# Altium schematic symbol library PCB_Project_1.SCHLIB: 37 symbols
Pins are listed as number, name and electrical type; pins without a type are passive.

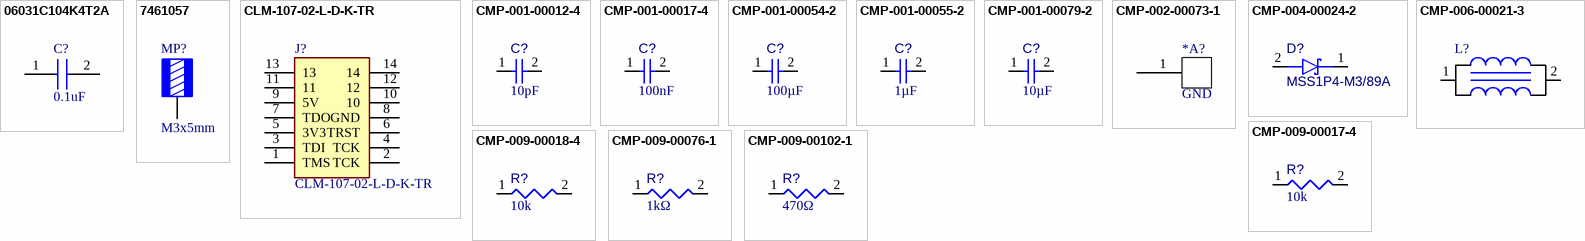
[diagram p0: symbols 06031C104K4T2A to CMP-009-00102-1]

## 06031C104K4T2A
designator C?, comment 0.1uF
Capacitor; Manufacturer_Name: AVX; Manufacturer_Part_Number: 06031C104K4T2A; Datasheet Link: https://componentsearchengine.com/Datasheets/1/06031A100FAT2A.pdf; Height: 0.9mm; Mouser Part Number: 581-06031C104K4T2A; Mouser Price/Stock: https://www.mouser.co.uk/ProductDetail/AVX/06031C104K4T2A?qs=7MVldsJ5UaycASOsZ6%2FbJQ%3D%3D
footprint CAPC1608X90N
pins: 1, 2

## 7461057
designator MP?, comment M3x5mm
WP-BUTR Press-Fit with Internal thread, two rows, 7x7mm, 6 pins, M3x5mm, 100A; Part Number: 7461057; Pin Number: 6; Thread Length: 5mm; Thread: M3; Surface: Tin; ComponentLink1Description: Manufacturer; ComponentLink1URL: http://www.we-online.de; ComponentLink2Description: Datasheet; ComponentLink2URL: https://katalog.we-online.com/em/datasheet/7461057.pdf; Operating Temperature: -55 to +150degC; Height: 6mm; Material: Brass; Packaging: Bulk; Mounting Technology: Press-Fit; Rated Current: 100A; Publisher: Wurth Elektronik; Published Date: September 2019; Size: 7x7mm
footprint 7461057_for HAL
footprint 7461057_for chemical surfaces
pins: 1

## CLM-107-02-L-D-K-TR
designator J?
Connector; Manufacturer_Name: SAMTEC; Datasheet Link: http://suddendocs.samtec.com/prints/clm-1xx-xx-xx-d-xx-mkt.pdf; Manufacturer_Part_Number: CLM-107-02-L-D-K-TR; Arrow Part Number: CLM-107-02-L-D-K-TR; Arrow Price/Stock: https://www.arrow.com/en/products/clm-107-02-l-d-k-tr/samtec; Mouser Part Number: 200-CLM10702LDKTR; Mouser Price/Stock: https://www.mouser.co.uk/ProductDetail/Samtec/CLM-107-02-L-D-K-TR?qs=0lQeLiL1qyaVnfWTja1Tqg%3D%3D
footprint CLM-107-02-XX-D-Y-TR
pins: 1 TMS, 2 TCK, 3 TDI, 4 TCK, 5 3V3, 6 TRST, 7 TDO, 8 GND, 9 5V, 10, 11, 12, 13, 14

## CMP-001-00012-4
designator C?, comment value 10pF  (hidden comment: Capacitor 10 pF +/- 0.25 pF 50 V 0603)
Chip Capacitor, 10 pF, +/- 0.25 pF, 50 V, 0603 (1608 Metric); Manufacturer: KEMET; Manufacturer Part Number: C0603C100C5GACTU; Tolerance: 0.25%; Capacitor Type: Ceramic; Voltage Rating: 50V; Min Operating Temperature: -55°C; Mounting Technology: SM; RoHS Compliant: True; Case/Package: 0603; Pins: 2; Max Operating Temperature: 125°C; Component Type: Capacitors
footprint CAPC1608X87X35ML15T15 (Chip Capacitor, 2-Leads, Body 1.75x0.95mm, IPC Low Density)
footprint CAPC1608X87X35NL15T15 (Chip Capacitor, 2-Leads, Body 1.75x0.95mm, IPC Medium Density)
footprint CAPC1608X87X35LL15T15 (Chip Capacitor, 2-Leads, Body 1.75x0.95mm, IPC High Density)
pins: 1, 2

## CMP-001-00017-4
designator C?, comment value 100nF  (hidden comment: Capacitor 100 nF +/-10% 50 V 0603)
Chip Capacitor, 100 nF, +/- 10%, 50 V, 0603 (1608 Metric); Manufacturer: Kyocera AVX; Manufacturer Part Number: 06035C104KAT2A; Manufacturer: Yageo; Manufacturer Part Number: CC0603KRX7R9BB104; Manufacturer: Murata; Manufacturer Part Number: GRM188R71H104KA93D; Capacitor Type: Ceramic; Voltage Rating: 50V; RoHS Compliant: True; Max Operating Temperature: 125°C; Pins: 2; Mounting Technology: SM; Min Operating Temperature: -55°C; Tolerance: 10%; Case/Package: 0603; Component Type: Capacitors
footprint CAPC1608X90X40ML10T20 (Chip Capacitor, 2-Leads, Body 1.70x0.90mm, IPC Low Density)
footprint CAPC1608X90X40NL10T20 (Chip Capacitor, 2-Leads, Body 1.70x0.90mm, IPC Medium Density)
footprint CAPC1608X90X40LL10T20 (Chip Capacitor, 2-Leads, Body 1.70x0.90mm, IPC High Density)
pins: 1, 2

## CMP-001-00054-2
designator C?, comment value 100µF  (hidden comment: Capacitor 100µF +/-20% 6.3V 0805)
Chip Capacitor, 100µF +/-20%, 6.3V, 0805, Thickness 1.45 mm; Manufacturer: Murata; Manufacturer Part Number: GRM21BR60J107ME15L; Manufacturer Part Number: GRM21BR60G107ME15L; Tolerance: 10%; Case/Package: 0402; Min Operating Temperature: -55°C; Max Operating Temperature: 85°C; Pins: 2; Voltage Rating: 6.3V; Mounting Technology: SMT; Component Type: Capacitors
footprint CAPC0805(2012)145_L (Chip Capacitor, Body 2.0x1.2mm, Height 1.45mm, IPC High Density)
pins: 1, 2

## CMP-001-00055-2
designator C?, comment value 1µF  (hidden comment: Capacitor 1µF +/-0.1% 25V 0603)
Chip Capacitor, 1µF +/-0.1%, 25V, 0603, Thickness 1 mm; Manufacturer: TDK; Manufacturer Part Number: CGA3E3X5R1E105K080AB; Manufacturer: Yageo; Manufacturer Part Number: CC0603KRX5R8BB105; Manufacturer: Samsung; Manufacturer Part Number: CL10A105KA8NNNC; Manufacturer Part Number: CL10A105KA8NFNC; Tolerance: 20%; Max Operating Temperature: 85°C; Voltage Rating: 25V; Min Operating Temperature: -55°C; Case/Package: 0603; Mounting Technology: SMT; Pins: 2; Component Type: Capacitors
footprint CAPC0603(1608)100_L (Chip Capacitor, Body 1.6x0.8mm, Height 1.0mm, IPC High Density)
pins: 1, 2

## CMP-001-00079-2
designator C?, comment value 10µF  (hidden comment: Capacitor 10µF +/-20% 25V 0805)
Chip Capacitor, 10µF +/-20%, 25V, 0805, Thickness 1.45 mm; Manufacturer: Yageo; Manufacturer Part Number: CC0805KKX5R8BB106; Manufacturer: TDK; Manufacturer Part Number: C2012X5R1E106K125AB; Manufacturer: Samsung; Manufacturer Part Number: CL21A106KACLRNC; Manufacturer Part Number: C2012X5R1E106K; Manufacturer: Murata; Manufacturer Part Number: GRM21BR61E106KA73L; Manufacturer Part Number: C2012X5R1E106K085AC; Tolerance: 10%; Pins: 2; Max Operating Temperature: 85°C; Mounting Technology: SMT; Case/Package: 0603; Voltage Rating: 25V; Min Operating Temperature: -55°C; Component Type: Capacitors
footprint CAPC0805(2012)145_L (Chip Capacitor, Body 2.0x1.2mm, Height 1.45mm, IPC High Density)
pins: 1, 2

## CMP-002-00073-1
designator *A?, comment GND
Power Pad for Ground and Supply; Component Type: Connectors
pins: 1

## CMP-004-00024-2
designator D?, comment MSS1P4-M3/89A
Schottky Diodes & Rectifiers 1.0 Amp 40 Volt; Manufacturer: Vishay Semiconductors; Max Surge Current: 25A; Forward Voltage: 460mV; Pins: 2; Min Operating Temperature: -55°C; Max Operating Temperature: 150°C; Mounting Technology: SMT; Manufacturer Part Number: MSS1P4-M3/89A; Component Type: Diodes
footprint MicroSMP (DO-219AD) (SOD, 2-Leads, Body 2.3x1.4mm)
pins: 1 K, 2 A

## CMP-006-00021-3
designator L?, comment Inductor (Ansys)  (value not drawn)
Ansys 3D Model; Component Type: Inductors
footprint Inductor-Footprint-1
pins: 1 "I/P", 2 "O/P"

## CMP-009-00017-4
designator R?, comment value 10k  (hidden comment: Resistor 10k +/-1% 0603 100 mW)
Chip Resistor, 10 KOhm, +/- 1%, 01 W, -55 to 155 degC, 0603 (1608 Metric); Manufacturer: Yageo; Manufacturer Part Number: RC0603FR-0710KL; Manufacturer: Panasonic; Manufacturer Part Number: ERJ-3EKF1002V; Manufacturer Part Number: RC0603FR-1310KL; Manufacturer: Vishay; Manufacturer Part Number: CRCW060310K0FKEA; Voltage Rating: 50V; Power: 100mW; Min Operating Temperature: -55°C; Tolerance: 1%; Case/Package: 0603; Pins: 2; Max Operating Temperature: 155°C; RoHS Compliant: True; Mounting Technology: SM; Component Type: Resistors
footprint RESC1608X55X25ML10T15 (Chip Resistor, 2-Leads, Body 1.70x0.90mm, IPC Low Density)
footprint RESC1608X55X25NL10T15 (Chip Resistor, 2-Leads, Body 1.70x0.90mm, IPC Medium Density)
footprint RESC1608X55X25LL10T15 (Chip Resistor, 2-Leads, Body 1.70x0.90mm, IPC High Density)
pins: 1, 2
1 alternate drawing of the same symbol

## CMP-009-00018-4
designator R?, comment value 10k  (hidden comment: Resistor 10k +/-1% 0805 125 mW)
Chip Resistor, 10 KOhm, +/- 1%, 125 mW, -55 to 155 degC, 0805 (2012 Metric); Manufacturer: Yageo; Manufacturer Part Number: RC0805FR-0710KL; Manufacturer: Vishay; Manufacturer Part Number: CRCW080510K0FKEA; Manufacturer: Panasonic; Manufacturer Part Number: ERJ-6ENF1002V; Power: 125mW; Voltage Rating: 150V; RoHS Compliant: True; Mounting Technology: SM; Pins: 2; Case/Package: 0603; Min Operating Temperature: -55°C; Max Operating Temperature: 155°C; Tolerance: 1%; Component Type: Resistors
footprint RESC2013X50X35ML15T15 (Chip Resistor, 2-Leads, Body 2.2x1.4mm, IPC Low Density)
footprint RESC2013X50X35NL15T15 (Chip Resistor, 2-Leads, Body 2.2x1.4mm, IPC Medium Density)
footprint RESC2013X50X35LL15T15 (Chip Resistor, 2-Leads, Body 2.2x1.4mm, IPC High Density)
pins: 1, 2
1 alternate drawing of the same symbol

## CMP-009-00076-1
designator R?, comment value 1kΩ  (hidden comment: 1KR5J)
1K 0.125W 5% 0805 (2012 Metric)  SMD; Mounting Technology: SMT; Power: 0.125W; Pins: 2; Case/Package: 0603; Tolerance: 5%; Component Type: Resistors
footprint RESC0805(2012)_L (Chip Resistor, Body 2.0x1.3mm, IPC High Density)
pins: 1, 2
1 alternate drawing of the same symbol

## CMP-009-00102-1
designator R?, comment value 470Ω  (hidden comment: 470R5J)
470R 0.125W 5% 0805 (2012 Metric)  SMD; Power: 0.125W; Tolerance: 5%; Mounting Technology: SMT; Case/Package: 0805; Pins: 2; Component Type: Resistors
footprint RESC0805(2012)_L (Chip Resistor, Body 2.0x1.3mm, IPC High Density)
pins: 1, 2
1 alternate drawing of the same symbol

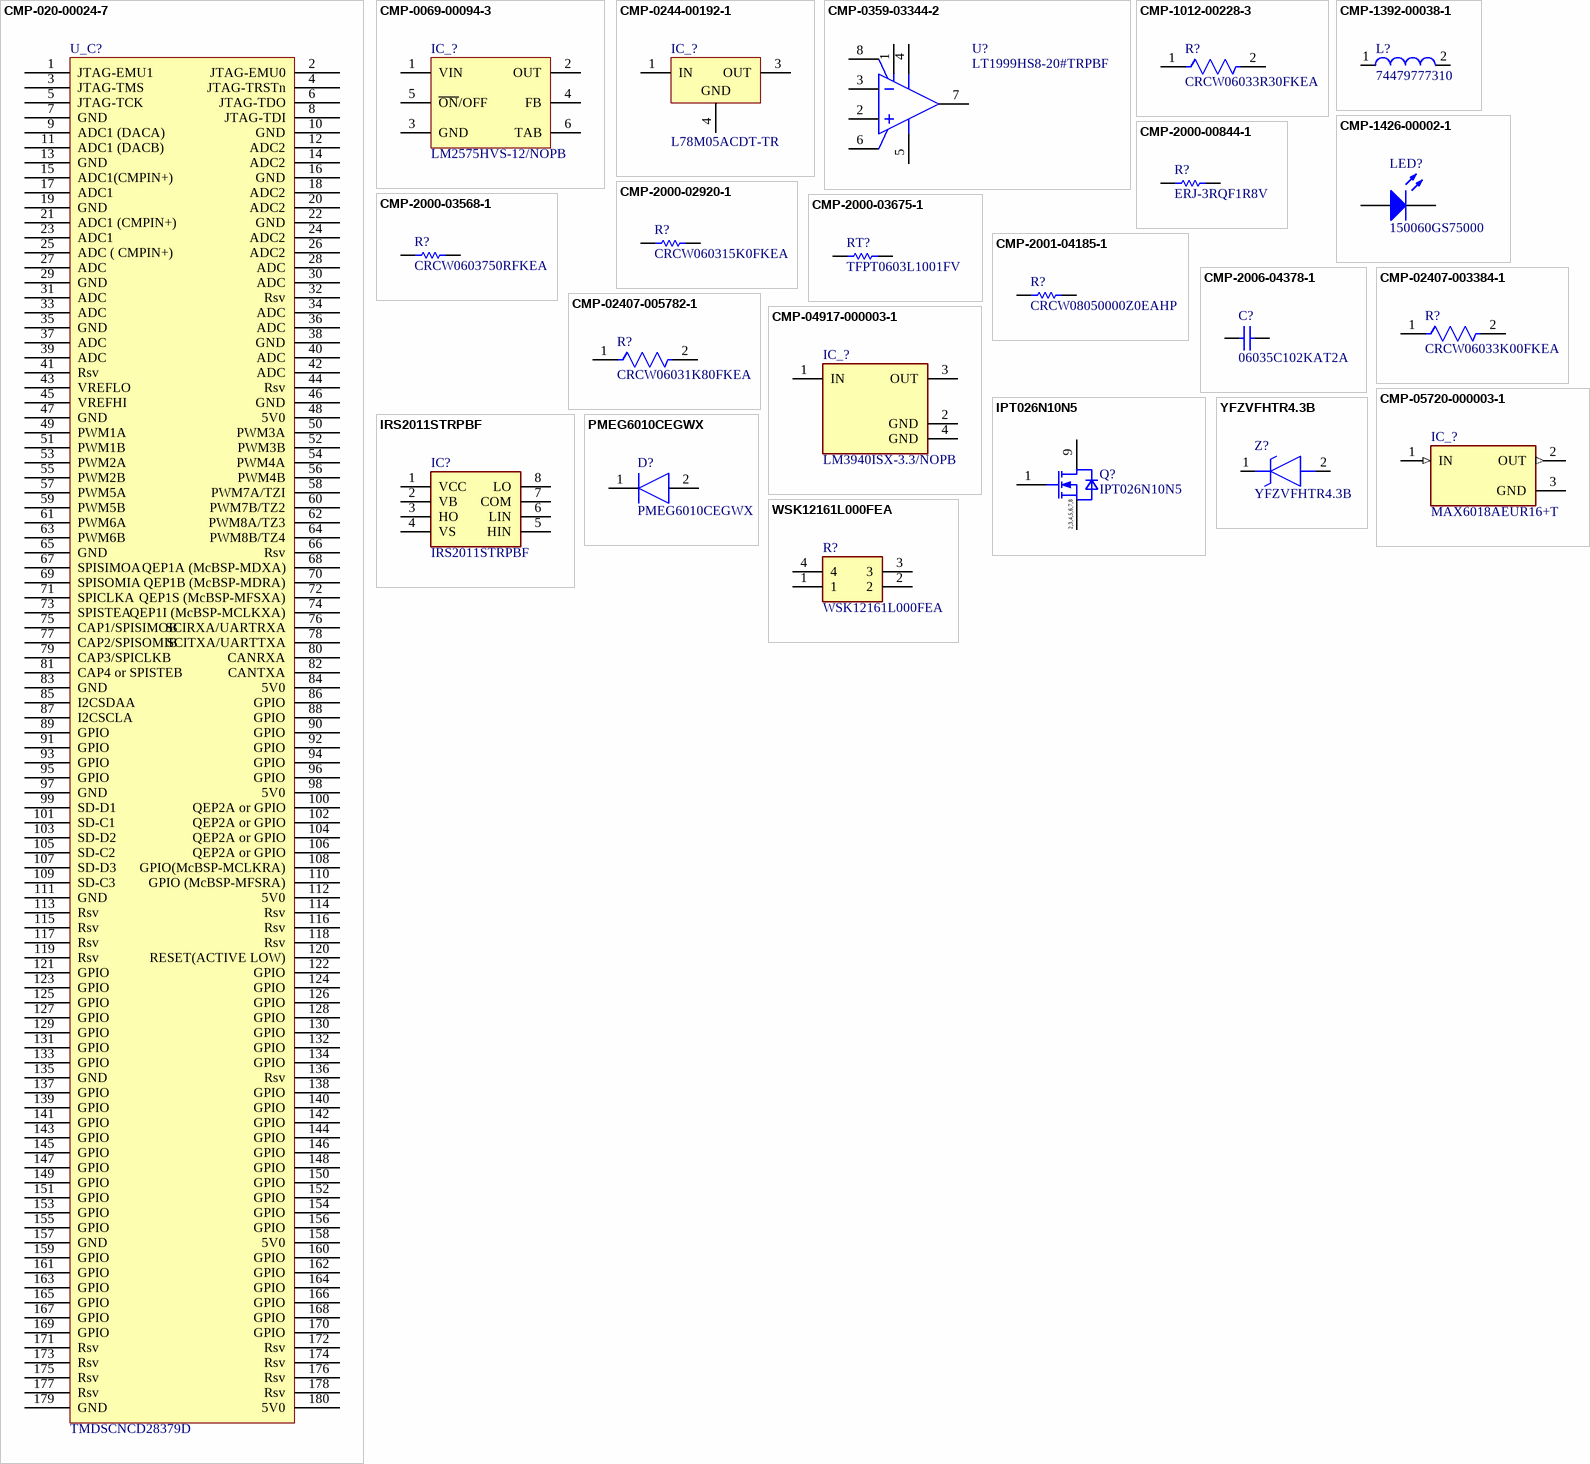
[diagram p1: symbols CMP-020-00024-7 to YFZVFHTR4.3B]

## CMP-020-00024-7
designator U_C?, comment TMDSCNCD28379D
F28379D CONTROLCARD FOR C2000 RE; Manufacturer: Texas Instruments; Evaluation Kit: Yes; Manufacturer Part Number: TMDSCNCD28379D; Component Type: Processors
footprint TMDSCNCD28379D-Footprint-1
pins: 1 JTAG-EMU1, 2 JTAG-EMU0, 3 JTAG-TMS, 4 JTAG-TRSTn, 5 JTAG-TCK, 6 JTAG-TDO, 7 GND, 8 JTAG-TDI, 9 ADC1 (DACA), 10 GND, 11 ADC1 (DACB), 12 ADC2, 13 GND, 14 ADC2, 15 ADC1(CMPIN+), 16 GND, 17 ADC1, 18 ADC2, 19 GND, 20 ADC2, 21 ADC1 (CMPIN+), 22 GND, 23 ADC1, 24 ADC2, 25 ADC ( CMPIN+), 26 ADC2, 27 ADC, 28 ADC, 29 GND, 30 ADC, 31 ADC, 32 Rsv, 33 ADC, 34 ADC, 35 GND, 36 ADC, 37 ADC, 38 GND, 39 ADC, 40 ADC, 41 Rsv, 42 ADC, 43 VREFLO, 44 Rsv, 45 VREFHI, 46 GND, 47 GND, 48 5V0, 49 PWM1A, 50 PWM3A, 51 PWM1B, 52 PWM3B, 53 PWM2A, 54 PWM4A, 55 PWM2B, 56 PWM4B, 57 PWM5A, 58 PWM7A/TZI, 59 PWM5B, 60 PWM7B/TZ2, 61 PWM6A, 62 PWM8A/TZ3, 63 PWM6B, 64 PWM8B/TZ4, 65 GND, 66 Rsv, 67 SPISIMOA, 68 QEP1A (McBSP-MDXA), 69 SPISOMIA, 70 QEP1B (McBSP-MDRA), 71 SPICLKA, 72 QEP1S (McBSP-MFSXA), 73 SPISTEA, 74 QEP1I (McBSP-MCLKXA), 75 CAP1/SPISIMOB, 76 SCIRXA/UARTRXA, 77 CAP2/SPISOMIB, 78 SCITXA/UARTTXA, 79 CAP3/SPICLKB, 80 CANRXA, 81 CAP4 or SPISTEB, 82 CANTXA, 83 GND, 84 5V0, 85 I2CSDAA, 86 GPIO, 87 I2CSCLA, 88 GPIO, 89 GPIO, 90 GPIO, 91 GPIO, 92 GPIO, 93 GPIO, 94 GPIO, 95 GPIO, 96 GPIO, 97 GND, 98 5V0, 99 SD-D1, 100 QEP2A or GPIO, 101 SD-C1, 102 QEP2A or GPIO, 103 SD-D2, 104 QEP2A or GPIO, 105 SD-C2, 106 QEP2A or GPIO, 107 SD-D3, 108 GPIO(McBSP-MCLKRA), 109 SD-C3, 110 GPIO (McBSP-MFSRA), 111 GND, 112 5V0, 113 Rsv, 114 Rsv, 115 Rsv, 116 Rsv, 117 Rsv, 118 Rsv, 119 Rsv, 120 RESET(ACTIVE LOW), 121 GPIO, 122 GPIO, 123 GPIO, 124 GPIO, 125 GPIO, 126 GPIO, 127 GPIO, 128 GPIO, 129 GPIO, 130 GPIO, 131 GPIO, 132 GPIO, 133 GPIO, 134 GPIO, 135 GND, 136 Rsv, 137 GPIO, 138 GPIO, 139 GPIO, 140 GPIO, 141 GPIO, 142 GPIO, 143 GPIO, 144 GPIO, 145 GPIO, 146 GPIO, 147 GPIO, 148 GPIO, 149 GPIO, 150 GPIO, 151 GPIO, 152 GPIO, 153 GPIO, 154 GPIO, 155 GPIO, 156 GPIO, 157 GND, 158 5V0, 159 GPIO, 160 GPIO, 161 GPIO, 162 GPIO, 163 GPIO, 164 GPIO, 165 GPIO, 166 GPIO, 167 GPIO, 168 GPIO, 169 GPIO, 170 GPIO, 171 Rsv, 172 Rsv, 173 Rsv, 174 Rsv, 175 Rsv, 176 Rsv, 177 Rsv, 178 Rsv, 179 GND, 180 5V0

## CMP-0069-00094-3
designator IC_?, comment LM2575HVS-12/NOPB
SIMPLE SWITCHER® 1A Step-Down Voltage Regulator, 5-pin TO-263, Pb-Free; Manufacturer: Texas Instruments; Manufacturer: TI National Semiconductor; PackageTopMarking: NSUZXYTTE#*LM2575HVS*-12 P+; PowerWise: N; CompType: Switcher; PinCount: 5; Code_JEDEC: MO-169-AB; PackageReference: KTT0005B; PackageDescription: TO-263, Molded, .400 x .390 x .180in, 5 Lead, .067in Pitch, Surface Mount; RoHS: Y; ComponentLink1Description: Datasheet URL; ComponentLink1URL: http://www.ti.com/general/docs/lit/getliterature.tsp?genericPartNumber=LM2575HV&fileType=pdf; Manufacturer Part Number: LM2575HVS-12/NOPB
footprint KTT0005B_L (DPAK, 5-Leads, Body 10.65x9.65mm, Pitch 1.7mm, IPC High Density)
footprint KTT0005B_M (DPAK, 5-Leads, Body 10.65x9.65mm, Pitch 1.7mm, IPC Low Density)
footprint KTT0005B_N (DPAK, 5-Leads, Body 10.65x9.65mm, Pitch 1.7mm, IPC Medium Density)
pins: 1 VIN, 2 OUT, 3 GND, 4 FB, 5 ~{ON}/OFF, 6 TAB

## CMP-0244-00192-1
designator IC_?, comment L78M05ACDT-TR
Precision 500mA Regulator, 5V, 3-Pin DPAK, Tape and Reel; Manufacturer: STMicroelectronics; DatasheetVersion: 1/11/2010; PackageReference: TO-252; PackageVersion: 2011; ComponentLink2Description: Datasheet; PackageDescription: 3-Pin Transistor Outline Package 2.28 mm Pitch, 9.7 mm Lead Span (DPAK); ComponentLink1Description: Manufacturer URL; ComponentLink1URL: http://www.st.com; ComponentLink2URL: http://www.st.com/internet/com/TECHNICAL_RESOURCES/TECHNICAL_LITERATURE/DATASHEET/CD00000448.pdf; Manufacturer Part Number: L78M05ACDT-TR
footprint TO-252_M (D-PAK, 4-Leads, Body 6.1x6.5mm, Pitch 2.28mm, Lead Span 9.7mm, IPC Low Density)
footprint TO-252_L (D-PAK, 4-Leads, Body 6.1x6.5mm, Pitch 2.28mm, Lead Span 9.7mm, IPC High Density)
footprint TO-252_N (D-PAK, 4-Leads, Body 6.1x6.5mm, Pitch 2.28mm, Lead Span 9.7mm, IPC Medium Density)
pins: 1 IN, 3 OUT, 4 GND

## CMP-0359-03344-2
designator U?, comment LT1999HS8-20#TRPBF
Single Channel, High Voltage, Bidirectional Current Sense Amplifier, 2 MHz Typical GBW, 3 V/us Typical SR, 4.5 to 5.5 V, 8-Pin SOIC (S8-8), High Temperature / Automotive, Pb-Free, Reel; Linear Technology Part Number: LT1999-20; Manufacturer: Linear Technology; Manufacturer: Analog Devices / Linear Technology; Channels (#): 1; GBW (MHz) Typical: 2; Is (mA) Typical: 1.55; Vs Max (V): 5.5; SR (V/us) Typical: 3; Vos (mV) Typical: 0.5; Vs Min (V): 4.5; ComponentLink2Description: Datasheet; RoHS: Pb-Free; ComponentLink1URL: http://www.linear.com/; Type: CSA; DatasheetVersion: Rev. B; ComponentLink3URL: http://cds.linear.com/docs/en/packaging/05081610_G_SO8.pdf; ComponentLink1Description: Manufacturer URL; PackageReference: LT-S8-8; PackageVersion: Rev G; PartNumber: LT1999HS8-20#TRPBF; RevisionNote: URLs updated; Packing: Reel; PackageDescription: 8-Pin Plastic Small Outline, Body 4.9 x 3.9 mm, Pitch 1.27 mm; ComponentLink3Description: Package Specification; Mounting Technology: Surface Mount; ComponentLink2URL: http://cds.linear.com/docs/en/datasheet/1999fb.pdf; Manufacturer Part Number: LT1999HS8-20#TRPBF
footprint LT-S8-8_L (SOIC, 8-Leads, Body 4.9x3.9mm, Pitch 1.27mm, IPC High Density)
footprint LT-S8-8_N (SOIC, 8-Leads, Body 4.9x3.9mm, Pitch 1.27mm, IPC Medium Density)
footprint LT-S8-8_M (SOIC, 8-Leads, Body 4.9x3.9mm, Pitch 1.27mm, IPC Low Density)
pins: 1 V+ "Power Supply Voltage. Pins 1 and 4 are tied internally together. The specified range of operation is 4.5V to 5.5V, but lower supply voltages (down to approximately 4V) is possible although the LT1999 is not tested or (See Datasheet)", 2 +IN "Positive Sense Input Pin.", 3 -IN "Negative Sense Input Pin.", 4 V+ "Power Supply Voltage. Pins 1 and 4 are tied internally together. The specified range of operation is 4.5V to 5.5V, but lower supply voltages (down to approximately 4V) is possible although the LT1999 is not tested or (See Datasheet)", 5 GND "Ground Pin.", 6 REF "Reference Pin Input. The REF pin sets the output common mode level and is set halfway between V+ and GND using a divider made of two 160k resistors. The default open circuit potential of the REF pin is mid-supply.It can be (See Datasheet)", 7 OUT "Voltage Output. VOUT = AV•(VSENSE +/- VOSI),where AV is the gain, and VOSI is the input referred offset voltage. The output amplifier has a low impedance output and is designed to drive up to 200pF capacitive loads directly. (See Datasheet)", 8 ~{SHDN} "Shutdown Pin. When pulled to within 0.5V of GND (Pin 5), will place the LT1999 into low power shutdown. If the pin is left floating, an internal 2uA pullup current source will place the LT1999 into the active (amplifying) (See Datasheet)"

## CMP-1012-00228-3
designator R?, comment CRCW06033R30FKEA
RES Thick Film, 3.3Ω, 1%, 0.1W, 100ppm/°C, 0603; Manufacturer: Vishay Dale; Manufacturer: Yageo; Manufacturer Part Number: RC0603FR-073R3L; Resistance: 3.3R; Max Power Dissipation: 100mW; Voltage Rating: 75V; Case Code (Imperial): 0603; Width: 0.85mm; Number of Terminations: 2; REACH SVHC: No SVHC; Case/Package: 0603; Package Quantity: 10; Radiation Hardening: No; Min Operating Temperature: -55°C; Max Operating Temperature: 155°C; Composition: Thick Film; Termination: SMD/SMT; Tolerance: 1%; Military Standard: Not; Weight: 7.1E-05oz; Contact Plating: Tin; Packaging: Tape and Reel; Power Rating: 100mW; Height: 0.02inch; Length: 1.55mm; Voltage Rating (DC): 75V; Temperature Coefficient: 100ppm/°C; Case Code (Metric): 1608; Depth: 0.85mm; Lead Free: Lead Free; Features: Automotive AEC-Q200; Manufacturer Part Number: CRCW06033R30FKEA
footprint FP-CRCW0603-e3-IPC_C
footprint FP-CRCW0603-e3-IPC_A
footprint FP-CRCW0603-e3-MFG
footprint FP-CRCW0603-e3-IPC_B
pins: 1, 2

## CMP-1392-00038-1
designator L?, comment 74479777310
Power Multilayer Inductor WE-PMI, L=10.0 µH; Manufacturer: Wuerth Elektronik; Manufacturer: Wurth Electronics; Inductance: 10.0 ÂµH; ComponentLink2URL: http://katalog.we-online.de/kataloge/eisos/media/pdf/74479777310.pdf; PartNumber: 74479777310; PackageReference: SMD 0805_A; ComponentLink2Description: Datasheet; ComponentLink1Description: Manufacturer URL; ComponentLink1URL: http://www.we-online.com; Manufacturer Part Number: 74479777310
footprint SMD 0805_A (Chip Inductor, 2-Leads, Body 2,0x1,2mm)
pins: 1, 2

## CMP-1426-00002-1
designator LED?, comment 150060GS75000
SMD mono-color Chip LED, WL-SMCW, Green; Manufacturer: Wuerth Elektronik; Manufacturer: Wurth Electronics; ComponentLink1URL: http://www.we-online.com; ComponentLink2Description: Datasheet; Color: Green; ComponentLink2URL: http://katalog.we-online.com/led/datasheet/150060GS75000.pdf; PartNumber: 150060GS75000; PackageReference: 0603_A; ComponentLink1Description: Manufacturer URL; Manufacturer Part Number: 150060GS75000
footprint 0603_A (Chip LED, 2-Leads, Body 1.6x0.8mm, IPC Medium Density)
pins: 1 K, 2 A

## CMP-2000-00844-1
designator R?, comment ERJ-3RQF1R8V
Manufacturer: Panasonic; Part Number: ERJ-3RQF1R8V; Manufacturer Part Number: ERJ-3RQF1R8V
footprint RESC1608X55X30LL15T15 (Chip Resistor, 2-Leads, Body 1.60x0.80mm, IPC High Density)
footprint RESC1608X55X30NL15T15 (Chip Resistor, 2-Leads, Body 1.60x0.80mm, IPC Medium Density)
footprint RESC1608X55X30ML15T15 (Chip Resistor, 2-Leads, Body 1.60x0.80mm, IPC Low Density)
pins: 1, 2
1 alternate drawing of the same symbol

## CMP-2000-02920-1
designator R?, comment CRCW060315K0FKEA
Manufacturer: Vishay Dale; Manufacturer: Vishay; Part Number: CRCW060315K0FKEA; Manufacturer Part Number: CRCW060315K0FKEA
footprint RESC1609X50X30ML10T20 (Chip Resistor, 2-Leads, Body 1.55x0.85mm, IPC Low Density)
footprint RESC1609X50X30NL10T20 (Chip Resistor, 2-Leads, Body 1.55x0.85mm, IPC Medium Density)
footprint RESC1609X50X30LL10T20 (Chip Resistor, 2-Leads, Body 1.55x0.85mm, IPC High Density)
pins: 1, 2
1 alternate drawing of the same symbol

## CMP-2000-03568-1
designator R?, comment CRCW0603750RFKEA
Manufacturer: Vishay Dale; Manufacturer: Vishay; Part Number: CRCW0603750RFKEA; Manufacturer Part Number: CRCW0603750RFKEA
footprint RESC1609X50X30LL10T20 (Chip Resistor, 2-Leads, Body 1.55x0.85mm, IPC High Density)
footprint RESC1609X50X30NL10T20 (Chip Resistor, 2-Leads, Body 1.55x0.85mm, IPC Medium Density)
footprint RESC1609X50X30ML10T20 (Chip Resistor, 2-Leads, Body 1.55x0.85mm, IPC Low Density)
pins: 1, 2
1 alternate drawing of the same symbol

## CMP-2000-03675-1
designator RT?, comment TFPT0603L1001FV
Manufacturer: Vishay Dale; Part Number: TFPT0603L1001FV; Manufacturer Part Number: TFPT0603L1001FV
footprint RESC1609X55X30ML10T20 (Chip Resistor, 2-Leads, Body 1.60x0.85mm, IPC Low Density)
footprint RESC1609X55X30NL10T20 (Chip Resistor, 2-Leads, Body 1.60x0.85mm, IPC Medium Density)
footprint RESC1609X55X30LL10T20 (Chip Resistor, 2-Leads, Body 1.60x0.85mm, IPC High Density)
pins: 1, 2
1 alternate drawing of the same symbol

## CMP-2001-04185-1
designator R?, comment CRCW08050000Z0EAHP
Manufacturer: Vishay Dale; Part Number: CRCW08050000Z0EAHP; Manufacturer Part Number: CRCW08050000Z0EAHP
footprint RESC2013X50X30ML20T20 (Chip Resistor, 2-Leads, Body 2.00x1.25mm, IPC Low Density)
footprint RESC2013X50X30NL20T20 (Chip Resistor, 2-Leads, Body 2.00x1.25mm, IPC Medium Density)
footprint RESC2013X50X30LL20T20 (Chip Resistor, 2-Leads, Body 2.00x1.25mm, IPC High Density)
pins: 1, 2
1 alternate drawing of the same symbol

## CMP-2006-04378-1
designator C?, comment 06035C102KAT2A
Manufacturer: AVX Interconnect / Elco; Manufacturer: Kyocera AVX; Part Number: 06035C102KAT2A; Manufacturer Part Number: 06035C102KAT2A
footprint CAPC1608X90X35LL15T15 (Chip Capacitor, 2-Leads, Body 1.60x0.81mm, IPC High Density)
footprint CAPC1608X90X35ML15T15 (Chip Capacitor, 2-Leads, Body 1.60x0.81mm, IPC Low Density)
footprint CAPC1608X90X35NL15T15 (Chip Capacitor, 2-Leads, Body 1.60x0.81mm, IPC Medium Density)
pins: 1, 2
1 alternate drawing of the same symbol

## CMP-02407-003384-1
designator R?, comment CRCW06033K00FKEA
RES Thick Film, 3kΩ, 1%, 0.1W, 100ppm/°C, 0603; Voltage Rating: 75V; Resistance: 3kR; Power Rating: 100mW; Features: Automotive AEC-Q200; Radiation Hardening: No; Contact Plating: Tin; Termination: SMD/SMT; Lead Free: Lead Free; Case Code (Imperial): 0603; Case Code (Metric): 1608; Case/Package: 0603; Depth: 0.85mm; Mount: Surface Mount; Voltage Rating (DC): 75V; Tolerance: 1%; Package Quantity: 10; Temperature Coefficient: 100ppm/°C; Height: 0.45mm; Max Power Dissipation: 100mW; Composition: Thick Film; Max Operating Temperature: 155°C; Military Standard: Not; Weight: 7.1E-05oz; Length: 1.55mm; Packaging: Tape and Reel; Number of Terminations: 2; Width: 0.85mm; Min Operating Temperature: -55°C
footprint FP-CRCW0603-e3-MFG
footprint FP-CRCW0603-e3-IPC_A
footprint FP-CRCW0603-e3-IPC_B
footprint FP-CRCW0603-e3-IPC_C
pins: 1, 2

## CMP-02407-005782-1
designator R?, comment CRCW06031K80FKEA
RES Thick Film, 1.8kΩ, 1%, 0.1W, 100ppm/°C, 0603; Manufacturer: Vishay; Voltage Rating (DC): 75V; Max Power Dissipation: 100mW; Resistance: 1.8kR; Depth: 0.85mm; Contact Plating: Tin; Max Operating Temperature: 155°C; Package Quantity: 5000; Radiation Hardening: No; Temperature Coefficient: 100ppm/°C; Packaging: Tape and Reel; Number of Terminations: 2; Case Code (Imperial): 0603; Lead Free: Lead Free; Case/Package: 0603; Military Standard: Not; Weight: 7.1E-05oz; Tolerance: 1%; Height: 0.45mm; Min Operating Temperature: -55°C; Length: 1.55mm; Voltage Rating: 75V; Power Rating: 100mW; Width: 0.033inch; Composition: Thick Film; Case Code (Metric): 1608; Termination: SMD/SMT; Features: Automotive AEC-Q200; Manufacturer Part Number: CRCW06031K80FKEA
footprint FP-CRCW0603-e3-IPC_A
footprint FP-CRCW0603-e3-MFG
footprint FP-CRCW0603-e3-IPC_B
footprint FP-CRCW0603-e3-IPC_C
pins: 1, 2

## CMP-04917-000003-1
designator IC_?, comment LM3940ISX-3.3/NOPB
IC REG LIN 3.3V 1A DDPAK/TO263-3; Manufacturer: Texas Instruments; Accuracy Percentage: 2.5%; Min Supply Voltage: 4.5V; Max Junction Temp: +125°C; Dropout Voltage: 0.5V; Number Of Outputs: 1; Output Type: Fixed; Max Supply Voltage: 5.5V; Standoff Height: 0mm; Nominal Supply Current: 10-110mA; Device Class L3: Voltage Regulators - Linear; Octopart: https://octopart.com/lm3940isx-3.3%2Fnopb-texas+instruments-24814218; Digikey Description: IC REG LIN 3.3V 1A DDPAK/TO263-3; Manufacturer Part Number: LM3940ISX-3.3/NOPB; ComponentLink2URL: http://www.ti.com/lit/ds/symlink/lm3940.pdf; Automotive: No; Category: IC; Device Class L2: Power Management ICs; Package: KTT0003B; Device Class L1: Integrated Circuits (ICs); Output Current: 1A; Output Voltage: 3.3V; Mouser Description: LDO Voltage Regulators 1A LDO REG; Height: 4.79mm; Lead Free: Yes; Temperature Range High: +125°C; Temperature Range Low: -40°C; Temperature: -40°C to +125°C; RoHS: TRUE; ComponentLink2Description: Datasheet
footprint FP-KTT0003B-MFG
pins: 1 IN, 2 GND, 3 OUT, 4 GND

## CMP-05720-000003-1
designator IC_?, comment MAX6018AEUR16+T
IC VREF SERIES 0.2% SOT23-3; Manufacturer: Maxim; Output Voltage: 1.6V; Max Input Voltage: 6V; Output Current: 1mA; Output Type: Fixed; Number of Channels: 1; Quiescent Current: 5uA; Temperature Coefficient: 50ppm/°C; Operating Supply Current: 6uA; Number of Pins: 3; Radiation Hardening: No; Package Quantity: 1; Lead Free: Lead Free; Min Output Voltage: 1.6V; Min Operating Temperature: -40°C; Reference Type: Series; Max Operating Temperature: 85°C; Mount: Surface Mount; Max Output Current: 1mA; Reference Voltage: 1.6V; Case/Package: SOT-23-3; Tolerance: 0.2%; Packaging: Tape and Reel; Manufacturer Part Number: MAX6018AEUR16+T
footprint FP-U3-1-MFG
footprint FP-U3-1-IPC_C
footprint FP-U3-1-IPC_B
footprint FP-U3-1-IPC_A
pins: 1 IN (in), 2 OUT (out), 3 GND (power)

## IPT026N10N5
designator Q?
Insulated-Gate Field-Effect Transistor (IGFET), N-Channel, Enhancement, Body Diode, Pin 1 Gate, 2-8 Source, 9 Drain, 9 Pins; Manufacturer: Infineon Technologies; PackageReference: PG-HSOF-8-1; ManufacturerPartNumber: IPT026N10N5
footprint INF-PG-HSOF-8-1-0-V (HSOF-8-1,1.2mm pitch;8 pin,10.375mm W X 9.9mm L X 2.4mm H body (w/thermal tab))
pins: 1 GATE, 2 SOURCE, 3 SOURCE, 4 SOURCE, 5 SOURCE, 6 SOURCE, 7 SOURCE, 8 SOURCE, 9 DRAIN
text: 2,3,4,5,6,7,8

## IRS2011STRPBF
designator IC?
Integrated Circuit; Manufacturer_Name: Infineon; Datasheet Link: https://componentsearchengine.com/Datasheets/1/IRS2011STRPBF.pdf; Height: 1.75mm; Manufacturer_Part_Number: IRS2011STRPBF; Arrow Part Number: IRS2011STRPBF; Arrow Price/Stock: https://www.arrow.com/en/products/irs2011strpbf/infineon-technologies-ag; Mouser Part Number: 942-IRS2011STRPBF; Mouser Price/Stock: https://www.mouser.co.uk/ProductDetail/Infineon-IR/IRS2011STRPBF?qs=9%252BKlkBgLFf3Y4ge8A0TwYQ%3D%3D
footprint SOIC127P600X175-8N-12-V (SOIC,1.27mm pitch;8 pin,3.90mm W X 4.90mm L X 1.75mm H body)
footprint SOIC127P600X175-8N-12-V (SOIC,1.27mm pitch;8 pin,3.90mm W X 4.90mm L X 1.75mm H body)
pins: 1 VCC, 2 VB, 3 HO, 4 VS, 5 HIN, 6 LIN, 7 COM, 8 LO

## PMEG6010CEGWX
designator D?
Diode; Manufacturer_Name: Nexperia; Datasheet Link: https://componentsearchengine.com/Datasheets/2/PMEG6010CEGWX.pdf; Height: 1.3mm; Manufacturer_Part_Number: PMEG6010CEGWX; Arrow Part Number: PMEG6010CEGWX; Arrow Price/Stock: https://www.arrow.com/en/products/pmeg6010cegwx/nexperia; Mouser Part Number: 841-PMEG6010CEGWX; Mouser Price/Stock: https://www.mouser.co.uk/ProductDetail/Nexperia/PMEG6010CEGWX?qs=EO%252B2iqeaG01UFtX9P5mUZA%3D%3D
footprint SOD3616X130N
pins: 1 K, 2 A

## WSK12161L000FEA
designator R?
Resistor; Manufacturer_Name: Vishay; Datasheet Link: http://www.vishay.com/docs/30189/wsk1216.pdf; Height: 1.9mm; Manufacturer_Part_Number: WSK12161L000FEA; Arrow Part Number: WSK12161L000FEA; Arrow Price/Stock: https://www.arrow.com/en/products/wsk12161l000fea/vishay; Mouser Part Number: 71-WSK12161L000FEA; Mouser Price/Stock: https://www.mouser.co.uk/ProductDetail/Vishay-Dale/WSK12161L000FEA?qs=jj7GbYRQuOayzWPPW7c8og%3D%3D
footprint WSK12161L000FEA
pins: 1, 2, 3, 4

## YFZVFHTR4.3B
designator Z?
Zener Diode; Manufacturer_Name: ROHM Semiconductor; Datasheet Link: https://componentsearchengine.com/Datasheets/2/YFZVFHTR4.3B.pdf; Height: 0.8mm; Manufacturer_Part_Number: YFZVFHTR4.3B; Mouser Part Number: 755-YFZVFHTR4.3B; Mouser Price/Stock: https://www.mouser.co.uk/ProductDetail/ROHM-Semiconductor/YFZVFHTR43B?qs=4v%252BiZTmLVHGVnMzHBrJLew%3D%3D
footprint YFZVFHTR43B
pins: 1 K, 2 A